# Altium schematic symbol library ICS-43432.SchLib: 1 symbol
Pins are listed as number, name and electrical type; pins without a type are passive.

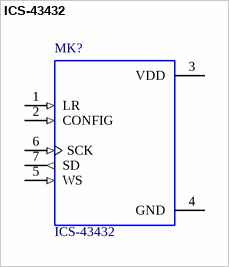
[diagram p0: symbol ICS-43432]

## ICS-43432
designator MK?
A high performance, low power, digital output, omnidirectional MEMS microphone with a bottom port.; MF: TDK InvenSense; SnapEDA_Link: https://www.snapeda.com/parts/ICS-43432/TDK%20InvenSense/view-part/?ref=snap; Package: LGA-7 TDK-InvenSense; MP: ICS-43432; Price: None; Availability: Unavailable; Value: *
footprint *MIC_ICS-43432
pins: 1 LR (in), 2 CONFIG (in), 3 VDD (power), 4 GND (power), 5 WS (in), 6 SCK (in), 7 SD (out)